# Altium integrated library Resistor.IntLib: 23 symbols
Pins are listed as number, name and electrical type; pins without a type are passive.

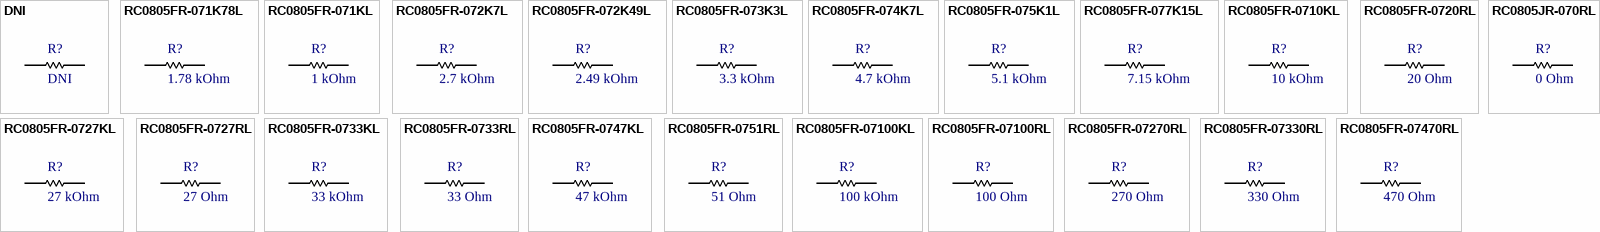
[diagram p0: symbols DNI to RC0805JR-070RL]

## DNI
designator R?
footprint RESC0805_M2012X06N (Chip Resistor, 2-Leads, Body 2.00x1.25mm, IPC Medium Density)
footprint RESC0201_M0603X03N (Chip Resistor, 2-Leads, Body 0.60x0.30mm, IPC Medium Density)
footprint RESC0402_M1005X04N (Chip Resistor, 2-Leads, Body 1.00x0.50mm, IPC Medium Density)
footprint RESC0603_M1608X06N (Chip Resistor, 2-Leads, Body 1.60x0.80mm, IPC Medium Density)
footprint RESC1206_M3116X06N (Chip Resistor, 2-Leads, Body 3.10x1.60mm, IPC Medium Density)
footprint RESC1210_M3126X06N (Chip Resistor, 2-Leads, Body 3.10x2.60mm, IPC Medium Density)
footprint RESC1218_M3146X06N (Chip Resistor, 2-Leads, Body 3.10x4.60mm, IPC Medium Density)
footprint RESC2010_M5025X06N (Chip Resistor, 2-Leads, Body 5.00x2.50mm, IPC Medium Density)
footprint RESC2512_M6431X06N (Chip Resistor, 2-Leads, Body 6.35x3.10mm, IPC Medium Density)
pins: 1, 2

## RC0805FR-071K78L
designator R?, comment 1.78 kOhm
1.78 kOhm, 1%, 0.125 W, 0805; Manufacturer 1: YAGEO; Manufacturer Part Number 1: RC0805FR-071K78L; Power: 0.125 W; Resistance: 1.78 kΩ; Tolerance: 1%; Supplier 1: Digi-Key; Supplier Part Number 1: 311-1.78KCRCT-ND
footprint RESC0805_M2012X06N (Chip Resistor, 2-Leads, Body 2.00x1.25mm, IPC Medium Density)
pins: 1, 2

## RC0805FR-071KL
designator R?, comment 1 kOhm
1 kOhm, 1%, 0.1 W, 0805; Manufacturer 1: YAGEO; Manufacturer Part Number 1: RC0805FR-071KL; Power: 0.1 W; Resistance: 1 kΩ; Tolerance: 1%; Supplier 1: Digi-Key; Supplier Part Number 1: 311-1.00KCRCT-ND
footprint RESC0805_M2012X06N (Chip Resistor, 2-Leads, Body 2.00x1.25mm, IPC Medium Density)
pins: 1, 2

## RC0805FR-072K7L
designator R?, comment 2.7 kOhm
2.7 kOhm, 1%, 0.125 W, 0805; Manufacturer 1: YAGEO; Manufacturer Part Number 1: RC0805FR-072K7L; Power: 0.125 W; Resistance: 2.7 kΩ; Tolerance: 1%; Supplier 1: Digi-Key; Supplier Part Number 1: 311-2.70KCRCT-ND
footprint RESC0805_M2012X06N (Chip Resistor, 2-Leads, Body 2.00x1.25mm, IPC Medium Density)
pins: 1, 2

## RC0805FR-072K49L
designator R?, comment 2.49 kOhm
2.49 kOhm, 1%, 0.125 W, 0805; Manufacturer 1: YAGEO; Manufacturer Part Number 1: RC0805FR-072K49L; Power: 0.125 W; Resistance: 2.49 kΩ; Tolerance: 1%; Supplier 1: Digi-Key; Supplier Part Number 1: 311-2.49KCRCT-ND
footprint RESC0805_M2012X06N (Chip Resistor, 2-Leads, Body 2.00x1.25mm, IPC Medium Density)
pins: 1, 2

## RC0805FR-073K3L
designator R?, comment 3.3 kOhm
3.3 kOhm, 1%, 0.125 W, 0805; Manufacturer 1: YAGEO; Manufacturer Part Number 1: RC0805FR-073K3L; Power: 0.125 W; Resistance: 3.3 kΩ; Tolerance: 1%; Supplier 1: Digi-Key; Supplier Part Number 1: 311-3.30KCRCT-ND
footprint RESC0805_M2012X06N (Chip Resistor, 2-Leads, Body 2.00x1.25mm, IPC Medium Density)
pins: 1, 2

## RC0805FR-074K7L
designator R?, comment 4.7 kOhm
4.7 kOhm, 1%, 0.125 W, 0805; Manufacturer 1: YAGEO; Manufacturer Part Number 1: RC0805FR-074K7L; Power: 0.125 W; Resistance: 4.7 kΩ; Tolerance: 1%; Supplier 1: Digi-Key; Supplier Part Number 1: 311-4.70KCRCT-ND
footprint RESC0805_M2012X06N (Chip Resistor, 2-Leads, Body 2.00x1.25mm, IPC Medium Density)
pins: 1, 2

## RC0805FR-075K1L
designator R?, comment 5.1 kOhm
5.1 kOhm, 1%, 0.125 W, 0805; Manufacturer 1: YAGEO; Manufacturer Part Number 1: RC0805FR-075K1L; Power: 0.125 W; Resistance: 5.1 kΩ; Tolerance: 1%; Supplier 1: Digi-Key; Supplier Part Number 1: 311-5.10KCRCT-ND
footprint RESC0805_M2012X06N (Chip Resistor, 2-Leads, Body 2.00x1.25mm, IPC Medium Density)
pins: 1, 2

## RC0805FR-077K15L
designator R?, comment 7.15 kOhm
7.15 kOhm, 1%, 0.125 W, 0805; Manufacturer 1: YAGEO; Manufacturer Part Number 1: RC0805FR-077K15L; Power: 0.125 W; Resistance: 7.15 kΩ; Tolerance: 1%; Supplier 1: Digi-Key; Supplier Part Number 1: 311-7.15KCRCT-ND
footprint RESC0805_M2012X06N (Chip Resistor, 2-Leads, Body 2.00x1.25mm, IPC Medium Density)
pins: 1, 2

## RC0805FR-0710KL
designator R?, comment 10 kOhm
10 kOhm, 1%, 0.125 W, 0805; Manufacturer 1: YAGEO; Manufacturer Part Number 1: RC0805FR-0710KL; Power: 0.125 W; Resistance: 10 kΩ; Tolerance: 1%; Supplier 1: Digi-Key; Supplier Part Number 1: 311-10.0KCRCT-ND
footprint RESC0805_M2012X06N (Chip Resistor, 2-Leads, Body 2.00x1.25mm, IPC Medium Density)
pins: 1, 2

## RC0805FR-0720RL
designator R?, comment 20 Ohm
20 Ohm, 1%, 0.125 W, 0805; Manufacturer 1: YAGEO; Manufacturer Part Number 1: RC0805FR-0720RL; Power: 0.125 W; Resistance: 20 Ω; Tolerance: 1%; Supplier 1: Digi-Key; Supplier Part Number 1: 311-20.0CRCT-ND
footprint RESC0805_M2012X06N (Chip Resistor, 2-Leads, Body 2.00x1.25mm, IPC Medium Density)
pins: 1, 2

## RC0805FR-0727KL
designator R?, comment 27 kOhm
27 kOhm, 1%, 0.125 W, 0805; Manufacturer 1: YAGEO; Manufacturer Part Number 1: RC0805FR-0727KL; Power: 0.125 W; Resistance: 27 kΩ; Tolerance: 1%; Supplier 1: Digi-Key; Supplier Part Number 1: 311-27.0KCRCT-ND
footprint RESC0805_M2012X06N (Chip Resistor, 2-Leads, Body 2.00x1.25mm, IPC Medium Density)
pins: 1, 2

## RC0805FR-0727RL
designator R?, comment 27 Ohm
27 Ohm, 1%, 0.125 W, 0805; Manufacturer 1: YAGEO; Manufacturer Part Number 1: RC0805FR-0727RL; Power: 0.125 W; Resistance: 27 Ω; Tolerance: 1%; Supplier 1: Digi-Key; Supplier Part Number 1: 311-27.0CRCT-ND
footprint RESC0805_M2012X06N (Chip Resistor, 2-Leads, Body 2.00x1.25mm, IPC Medium Density)
pins: 1, 2

## RC0805FR-0733KL
designator R?, comment 33 kOhm
33 kOhm, 1%, 0.125 W, 0805; Manufacturer 1: YAGEO; Manufacturer Part Number 1: RC0805FR-0733KL; Power: 0.125 W; Resistance: 33 kΩ; Tolerance: 1%; Supplier 1: Digi-Key; Supplier Part Number 1: 311-33.0KCRCT-ND
footprint RESC0805_M2012X06N (Chip Resistor, 2-Leads, Body 2.00x1.25mm, IPC Medium Density)
pins: 1, 2

## RC0805FR-0733RL
designator R?, comment 33 Ohm
33 Ohm, 1%, 0.125 W, 0805; Manufacturer 1: YAGEO; Manufacturer Part Number 1: RC0805FR-0733RL; Power: 0.125 W; Resistance: 33 Ω; Tolerance: 1%; Supplier 1: Digi-Key; Supplier Part Number 1: 311-33.0CRCT-ND
footprint RESC0805_M2012X06N (Chip Resistor, 2-Leads, Body 2.00x1.25mm, IPC Medium Density)
pins: 1, 2

## RC0805FR-0747KL
designator R?, comment 47 kOhm
47 kOhm, 1%, 0.125 W, 0805; Manufacturer 1: YAGEO; Manufacturer Part Number 1: RC0805FR-0747KL; Power: 0.125 W; Resistance: 47 kΩ; Tolerance: 1%; Supplier 1: Digi-Key; Supplier Part Number 1: 311-47.0KCRCT-ND
footprint RESC0805_M2012X06N (Chip Resistor, 2-Leads, Body 2.00x1.25mm, IPC Medium Density)
pins: 1, 2

## RC0805FR-0751RL
designator R?, comment 51 Ohm
51 Ohm, 1%, 0.125 W, 0805; Manufacturer 1: YAGEO; Manufacturer Part Number 1: RC0805FR-0751RL; Power: 0.125 W; Resistance: 51 Ω; Tolerance: 1%; Supplier 1: Digi-Key; Supplier Part Number 1: 311-51.0CRCT-ND
footprint RESC0805_M2012X06N (Chip Resistor, 2-Leads, Body 2.00x1.25mm, IPC Medium Density)
pins: 1, 2

## RC0805FR-07100KL
designator R?, comment 100 kOhm
100 kOhm, 1%, 0.125 W, 0805; Manufacturer 1: YAGEO; Manufacturer Part Number 1: RC0805FR-07100KL; Power: 0.125 W; Resistance: 100 kΩ; Tolerance: 1%; Supplier 1: Digi-Key; Supplier Part Number 1: 311-100KCRCT-ND
footprint RESC0805_M2012X06N (Chip Resistor, 2-Leads, Body 2.00x1.25mm, IPC Medium Density)
pins: 1, 2

## RC0805FR-07100RL
designator R?, comment 100 Ohm
100 Ohm, 1%, 0.125 W, 0805; Manufacturer 1: YAGEO; Manufacturer Part Number 1: RC0805FR-07100RL; Power: 0.125 W; Resistance: 100 Ω; Tolerance: 1%; Supplier 1: Digi-Key; Supplier Part Number 1: 311-100CRCT-ND
footprint RESC0805_M2012X06N (Chip Resistor, 2-Leads, Body 2.00x1.25mm, IPC Medium Density)
pins: 1, 2

## RC0805FR-07270RL
designator R?, comment 270 Ohm
270 Ohm, 1%, 0.125 W, 0805; Manufacturer 1: YAGEO; Manufacturer Part Number 1: RC0805FR-07270RL; Power: 0.125 W; Resistance: 270 Ω; Tolerance: 1%; Supplier 1: Digi-Key; Supplier Part Number 1: 311-270CRCT-ND
footprint RESC0805_M2012X06N (Chip Resistor, 2-Leads, Body 2.00x1.25mm, IPC Medium Density)
pins: 1, 2

## RC0805FR-07330RL
designator R?, comment 330 Ohm
330 Ohm, 1%, 0.125 W, 0805; Manufacturer 1: YAGEO; Manufacturer Part Number 1: RC0805FR-07330RL; Power: 0.125 W; Resistance: 330 Ω; Tolerance: 1%; Supplier 1: Digi-Key; Supplier Part Number 1: 311-330CRCT-ND
footprint RESC0805_M2012X06N (Chip Resistor, 2-Leads, Body 2.00x1.25mm, IPC Medium Density)
pins: 1, 2

## RC0805FR-07470RL
designator R?, comment 470 Ohm
470 Ohm, 1%, 0.125 W, 0805; Manufacturer 1: YAGEO; Manufacturer Part Number 1: RC0805FR-07470RL; Power: 0.125 W; Resistance: 470 Ω; Tolerance: 1%; Supplier 1: Digi-Key; Supplier Part Number 1: 311-470CRCT-ND
footprint RESC0805_M2012X06N (Chip Resistor, 2-Leads, Body 2.00x1.25mm, IPC Medium Density)
pins: 1, 2

## RC0805JR-070RL
designator R?, comment 0 Ohm
0 Ohm, Jumper, 0.125 W, 0805; Manufacturer 1: YAGEO; Manufacturer Part Number 1: RC0805JR-070RL; Power: 0.125 W; Resistance: 0 Ω; Tolerance: Jumper; Supplier 1: Digi-Key; Supplier Part Number 1: 311-0.0ARCT-ND
footprint RESC0805_M2012X06N (Chip Resistor, 2-Leads, Body 2.00x1.25mm, IPC Medium Density)
pins: 1, 2